# EAGLE library part REDV-12P (library apu-csk-motherboard)
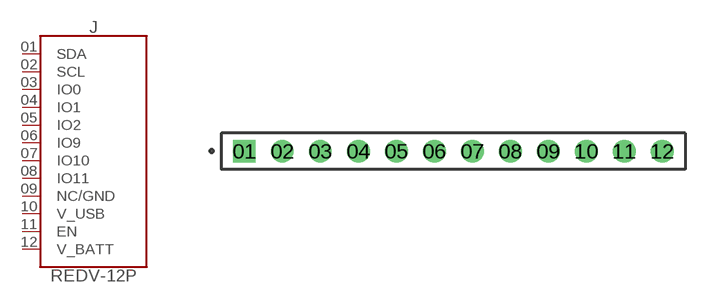
[diagram p5: symbol with the pads of SAMTEC_ESQ-112-37-G-S; footprint SAMTEC_ESQ-112-37-G-S]

Designator prefix J

## REDV-12P  [SAMTEC_ESQ-112-37-G-S]
01  SDA
02  SCL
03  IO0
04  IO1
05  IO2
06  IO9
07  IO10
08  IO11
09  NC/GND
10  V_USB
11  EN
12  V_BATT

## Footprint SAMTEC_ESQ-112-37-G-S (pad centres in mm)
drill 1.02 pad 1.37 square: 01 0,0
drill 1.02 pad 1.37: 02 2.54,0; 03 5.08,0; 04 7.62,0; 05 10.16,0; 06 12.7,0; 07 15.24,0; 08 17.78,0; 09 20.32,0; 10 22.86,0; 11 25.4,0; 12 27.94,0